# Altium schematic symbol library SIT8008BI-13-33E-33.333330E.SchLib: 1 symbol
Pins are listed as number, name and electrical type; pins without a type are passive.

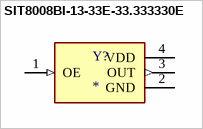
[diagram p0: symbol SIT8008BI-13-33E-33.333330E]

## SIT8008BI-13-33E-33.333330E
designator Y?
Programmable, Low Power Oscillator, -40 To 85c, 2520, 50ppm, 3.3v, 33.33333mhz, Oe, Smd; MF: {'manufacturer': u'SiTIME'}; MP: SIT8008BI-13-33E-33.333330E; Availability: Unavailable; Price: None; Package: None; Value: *
footprint OSC_SIT8008BI-13-33E-33.333330E
pins: 1 OE (in), 2 GND (power), 3 OUT (out), 4 VDD (power)